# Altium footprint library Logic - Gates and Inverters.PcbLib: 1 footprints
Each footprint in its own frame and in the unit in brackets; x right, y up, seen from the top. Pads: shape width x height; smd on the part's side, far side on the other; paste and mask are expansions set on the pad; w line width, h text height; cw(c..) or ccw(c..) is an arc to the next point about the centre after c.
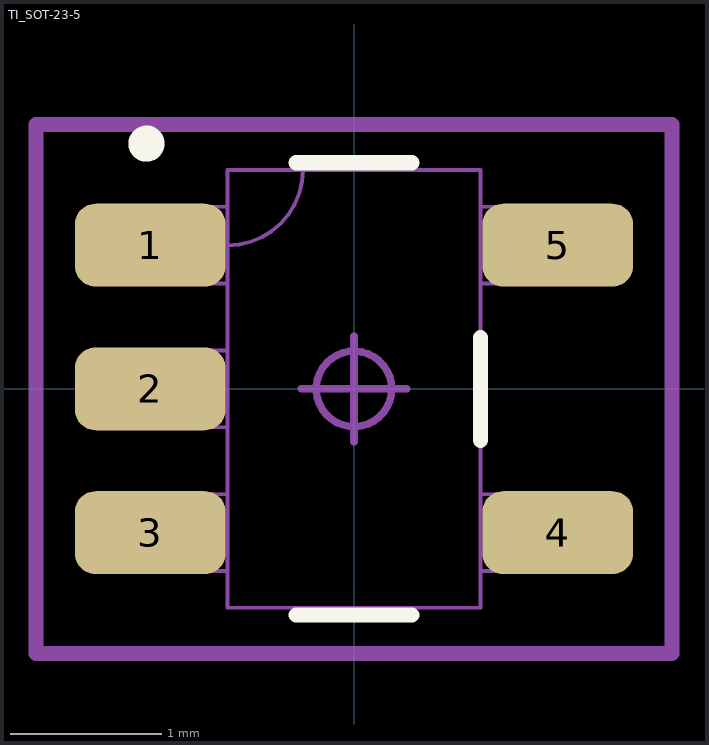
[diagram p0: the footprint, top view; thin cyan lines are the x and y axes]

## TI_SOT-23-5 [mm] "SOT-23 - 1.45 mm max height"
pads (5):
  rrect50% 1x0.55 smd mask+0.04: 1(-1.35,0.953) 2(-1.35,0) 3(-1.35,-0.953) 4(1.35,-0.953) 5(1.35,0.953)
Top Overlay:
  circle w0.12: c-1.375,1.625 r0.06
  lines w0.1: -0.385,-1.499 0.385,-1.499 ; -0.385,1.499 0.385,1.499 ; 0.838,-0.34 0.838,0.34
Mechanical 13:
  lines w0.025: -0.838,0.95 ccw(c-0.838,1.45) -0.338,1.45 ; -1.499,-1.206 -0.838,-1.206 -0.838,-0.699 -1.499,-0.699 -1.499,-1.206 ; -1.499,-0.254 -0.838,-0.254 -0.838,0.254 -1.499,0.254 -1.499,-0.254 ; -1.499,0.699 -0.838,0.699 -0.838,1.206 -1.499,1.206 -1.499,0.699 ; -0.838,-1.45 -0.838,1.45 0.838,1.45 0.838,-1.45 -0.838,-1.45 ; 0.838,-1.206 1.499,-1.206 1.499,-0.699 0.838,-0.699 0.838,-1.206 ; 0.838,0.699 1.499,0.699 1.499,1.206 0.838,1.206 0.838,0.699
Mechanical 15:
  circle w0.05: c0,0 r0.25
  lines w0.05: -0.35,0 0.35,0 ; 0,-0.35 0,0.35
  lines w0.1: -2.108,-1.753 2.108,-1.753 2.108,1.753 -2.108,1.753 -2.108,-1.753
3D body "DBV0005A.stp": height 1.2, standoff 0, extent -1.4,-1.45 1.4,1.45